# Altium integrated library LQW15AN2N5C00D.IntLib: 1 symbol
Pins are listed as number, name and electrical type; pins without a type are passive.

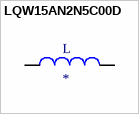
[diagram p0: symbol LQW15AN2N5C00D]

## LQW15AN2N5C00D
designator L
Inductor with Inductance: 2.5nH Tol. +/-0.2nH, Package: 0402 _1005_; MP: LQW15AN2N5C00D; MF: Murata; SnapEDA_Link: https://www.snapeda.com/parts/LQW15AN2N5C00D/Murata%20Electronics%20North%20America/view-part/1500635/?ref=snap; Digi-Key_Part_Number: 490-6798-1-ND; Package: 1006 Murata; Digi-Key_Purchase_URL: https://www.digikey.com.tr/product-detail/en/murata-electronics/LQW15AN2N5C00D/490-6798-1-ND/3845995?utm_source=snapeda&utm_medium=aggregator&utm_campaign=symbol; Value: *
footprint INDC1006X60N
pins: 1, 2